# EAGLE library part I-00789_C-2AA0SRDT (library Akizuki)
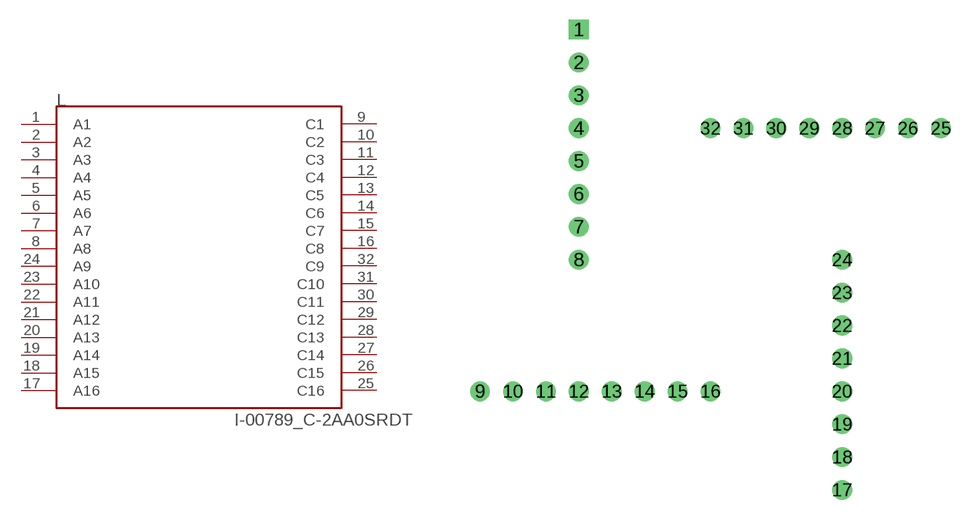
[diagram p0: symbol with the pads of C-2AA0SRDT; footprint C-2AA0SRDT]

Designator prefix L

## I-00789_C-2AA0SRDT  [C-2AA0SRDT]
1  A1
2  A2
3  A3
4  A4
5  A5
6  A6
7  A7
8  A8
9  C1
10  C2
11  C3
12  C4
13  C5
14  C6
15  C7
16  C8
17  A16
18  A15
19  A14
20  A13
21  A12
22  A11
23  A10
24  A9
25  C16
26  C15
27  C14
28  C13
29  C12
30  C11
31  C10
32  C9

## Footprint C-2AA0SRDT (pad centres in mm)
drill 0.8 pad 1.5 square: 1 7.5,30
drill 0.8 pad 1.5: 2 7.5,27.5; 3 7.5,25; 4 7.5,22.5; 5 7.5,20; 6 7.5,17.5; 7 7.5,15; 8 7.5,12.5; 9 0,2.5; 10 2.5,2.5; 11 5,2.5; 12 7.5,2.5; 13 10,2.5; 14 12.5,2.5; 15 15,2.5; 16 17.5,2.5; 17 27.5,-5; 18 27.5,-2.5; 19 27.5,0; 20 27.5,2.5; 21 27.5,5; 22 27.5,7.5; 23 27.5,10; 24 27.5,12.5; 25 35,22.5; 26 32.5,22.5; 27 30,22.5; 28 27.5,22.5; 29 25,22.5; 30 22.5,22.5; 31 20,22.5; 32 17.5,22.5